# Altium footprint library C0805C183K5RACTU.PcbLib: 3 footprints
Each footprint in its own frame and in the unit in brackets; x right, y up, seen from the top. Pads: shape width x height; smd on the part's side, far side on the other; paste and mask are expansions set on the pad; w line width, h text height; cw(c..) or ccw(c..) is an arc to the next point about the centre after c.
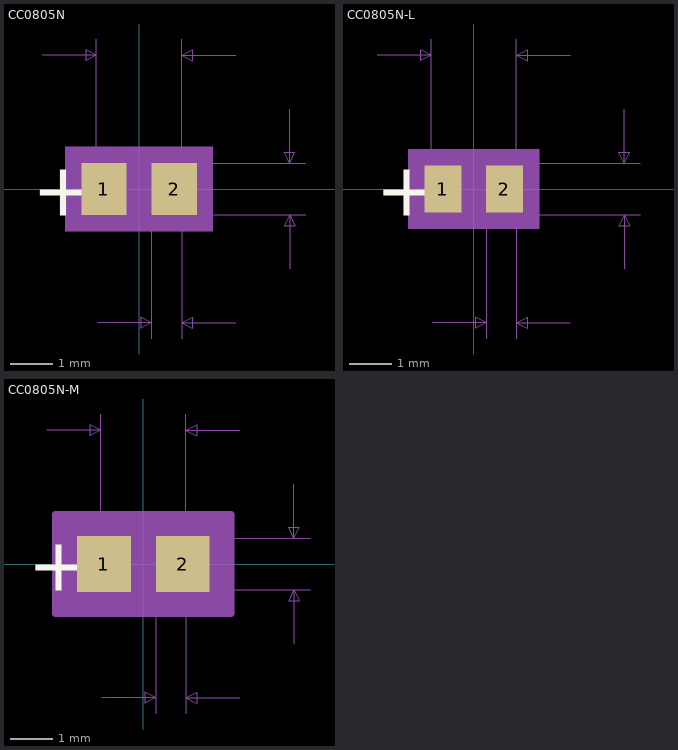
[diagram p0: the footprints below, top view; thin cyan lines are the x and y axes]

## CC0805N [mil]
pads (2):
  rect 42x48 smd: 1(-32.5,0) 2(32.5,0)
Top Overlay:
  text "+" at -99,-25 h50
Mechanical 5:
  region: 68.5,-39 -68.5,-39 -68.5,39 68.5,39
Mechanical 7:
  lines w1: -89.5,124 -39.5,124 ; -39.5,0 -39.5,139 ; -38.5,-124 11.5,-124 ; 0,-24 154.5,-24 ; 0,24 154.5,24 ; 11.5,-139 11.5,0 ; 39.5,-139 39.5,0 39.5,139 ; 89.5,-124 39.5,-124 ; 89.5,124 39.5,124 ; 139.5,-74 139.5,-24 ; 139.5,74 139.5,24 ; -39.5,124 -49.5,129 -49.5,119 -39.5,124 ; 11.5,-124 1.5,-119 1.5,-129 11.5,-124 ; 39.5,-124 49.5,-119 49.5,-129 39.5,-124 ; 39.5,124 49.5,129 49.5,119 39.5,124 ; 139.5,-24 134.5,-34 144.5,-34 139.5,-24 ; 139.5,24 134.5,34 144.5,34 139.5,24
  text "Default Padstyle: RX42Y48D0T" at -350,-294 h50
  text "Alternate 1 Padstyle: OX60Y90D30P" at -412.5,-394 h50
  text "Alternate 2 Padstyle: OX90Y60D30P" at -412.5,-494 h50
  text "0.048in/1.219mm" at 159.5,-12.5 h25
  text "0.079in/2.007mm" at -93.75,144 h25
  text "0.028in/0.711mm" at -68.25,-169 h25
Mechanical 13:
  lines w1: -39.5,-24 -39.5,24 ; -39.5,-24 -11.5,-24 -11.5,24 -39.5,24 ; -39.5,-24 39.5,-24 ; -39.5,-24 -39.5,24 ; -39.5,24 39.5,24 ; 39.5,-24 11.5,-24 11.5,24 39.5,24 ; 39.5,-24 39.5,24 ; 39.5,-24 39.5,24
  text "+" at -99,-25 h50
Mechanical 15:
  region: 63.5,-34 -63.5,-34 -63.5,34 63.5,34
  lines w6: -63.5,-34 -63.5,34 63.5,34 63.5,-34 -63.5,-34
3D body: height 10, standoff 0, extent 0,0 10,10

## CC0805N-L [mil]
pads (2):
  rect 34x44 smd paste+0 mask+0: 1(-28.5,0) 2(28.5,0)
Top Overlay:
  text "+" at -91,-25 h50
Mechanical 5:
  region: 60.5,-37 -60.5,-37 -60.5,37 60.5,37
Mechanical 7:
  lines w1: -89.5,124 -39.5,124 ; -39.5,0 -39.5,139 ; -38.5,-124 11.5,-124 ; 0,-24 154.5,-24 ; 0,24 154.5,24 ; 11.5,-139 11.5,0 ; 39.5,-139 39.5,0 39.5,139 ; 89.5,-124 39.5,-124 ; 89.5,124 39.5,124 ; 139.5,-74 139.5,-24 ; 139.5,74 139.5,24 ; -39.5,124 -49.5,129 -49.5,119 -39.5,124 ; 11.5,-124 1.5,-119 1.5,-129 11.5,-124 ; 39.5,-124 49.5,-119 49.5,-129 39.5,-124 ; 39.5,124 49.5,129 49.5,119 39.5,124 ; 139.5,-24 134.5,-34 144.5,-34 139.5,-24 ; 139.5,24 134.5,34 144.5,34 139.5,24
  text "Default Padstyle: RX34Y44D0T" at -350,-292 h50
  text "Alternate 1 Padstyle: OX60Y90D30P" at -412.5,-392 h50
  text "Alternate 2 Padstyle: OX90Y60D30P" at -412.5,-492 h50
  text "0.048in/1.219mm" at 159.5,-12.5 h25
  text "0.079in/2.007mm" at -93.75,144 h25
  text "0.028in/0.711mm" at -68.25,-169 h25
Mechanical 13:
  lines w1: -39.5,-24 -39.5,24 ; -39.5,-24 -11.5,-24 -11.5,24 -39.5,24 ; -39.5,-24 39.5,-24 ; -39.5,-24 -39.5,24 ; -39.5,24 39.5,24 ; 39.5,-24 11.5,-24 11.5,24 39.5,24 ; 39.5,-24 39.5,24 ; 39.5,-24 39.5,24
  text "+" at -91,-25 h50
Mechanical 15:
  region: 49.5,-26 -49.5,-26 -49.5,26 49.5,26
  lines w6: -49.5,-26 -49.5,26 49.5,26 49.5,-26 -49.5,-26
3D body: height 10, standoff 0, extent 0,0 10,10

## CC0805N-M [mil]
pads (2):
  rect 50x52 smd paste+0 mask+0: 1(-36.5,0) 2(36.5,0)
Top Overlay:
  text "+" at -107,-25 h50
Mechanical 5:
  region: 76.5,-41 -76.5,-41 -76.5,41 76.5,41
Mechanical 7:
  lines w1: -89.5,124 -39.5,124 ; -39.5,0 -39.5,139 ; -38.5,-124 11.5,-124 ; 0,-24 154.5,-24 ; 0,24 154.5,24 ; 11.5,-139 11.5,0 ; 39.5,-139 39.5,0 39.5,139 ; 89.5,-124 39.5,-124 ; 89.5,124 39.5,124 ; 139.5,-74 139.5,-24 ; 139.5,74 139.5,24 ; -39.5,124 -49.5,129 -49.5,119 -39.5,124 ; 11.5,-124 1.5,-119 1.5,-129 11.5,-124 ; 39.5,-124 49.5,-119 49.5,-129 39.5,-124 ; 39.5,124 49.5,129 49.5,119 39.5,124 ; 139.5,-24 134.5,-34 144.5,-34 139.5,-24 ; 139.5,24 134.5,34 144.5,34 139.5,24
  text "Default Padstyle: RX50Y52D0T" at -350,-296 h50
  text "Alternate 1 Padstyle: OX60Y90D30P" at -412.5,-396 h50
  text "Alternate 2 Padstyle: OX90Y60D30P" at -412.5,-496 h50
  text "0.048in/1.219mm" at 159.5,-12.5 h25
  text "0.079in/2.007mm" at -93.75,144 h25
  text "0.028in/0.711mm" at -68.25,-169 h25
Mechanical 13:
  lines w1: -39.5,-24 -39.5,24 ; -39.5,-24 -11.5,-24 -11.5,24 -39.5,24 ; -39.5,-24 39.5,-24 ; -39.5,-24 -39.5,24 ; -39.5,24 39.5,24 ; 39.5,-24 11.5,-24 11.5,24 39.5,24 ; 39.5,-24 39.5,24 ; 39.5,-24 39.5,24
  text "+" at -107,-25 h50
Mechanical 15:
  region: 81.5,-46 -81.5,-46 -81.5,46 81.5,46
  lines w6: -81.5,-46 -81.5,46 81.5,46 81.5,-46 -81.5,-46
3D body: height 10, standoff 0, extent 0,0 10,10